# Altium footprint library electronpowered.PcbLib: 83 footprints (part 4 of 6)
Each footprint in its own frame and in the unit in brackets; x right, y up, seen from the top. Pads: shape width x height; smd on the part's side, far side on the other; paste and mask are expansions set on the pad; w line width, h text height; cw(c..) or ccw(c..) is an arc to the next point about the centre after c.
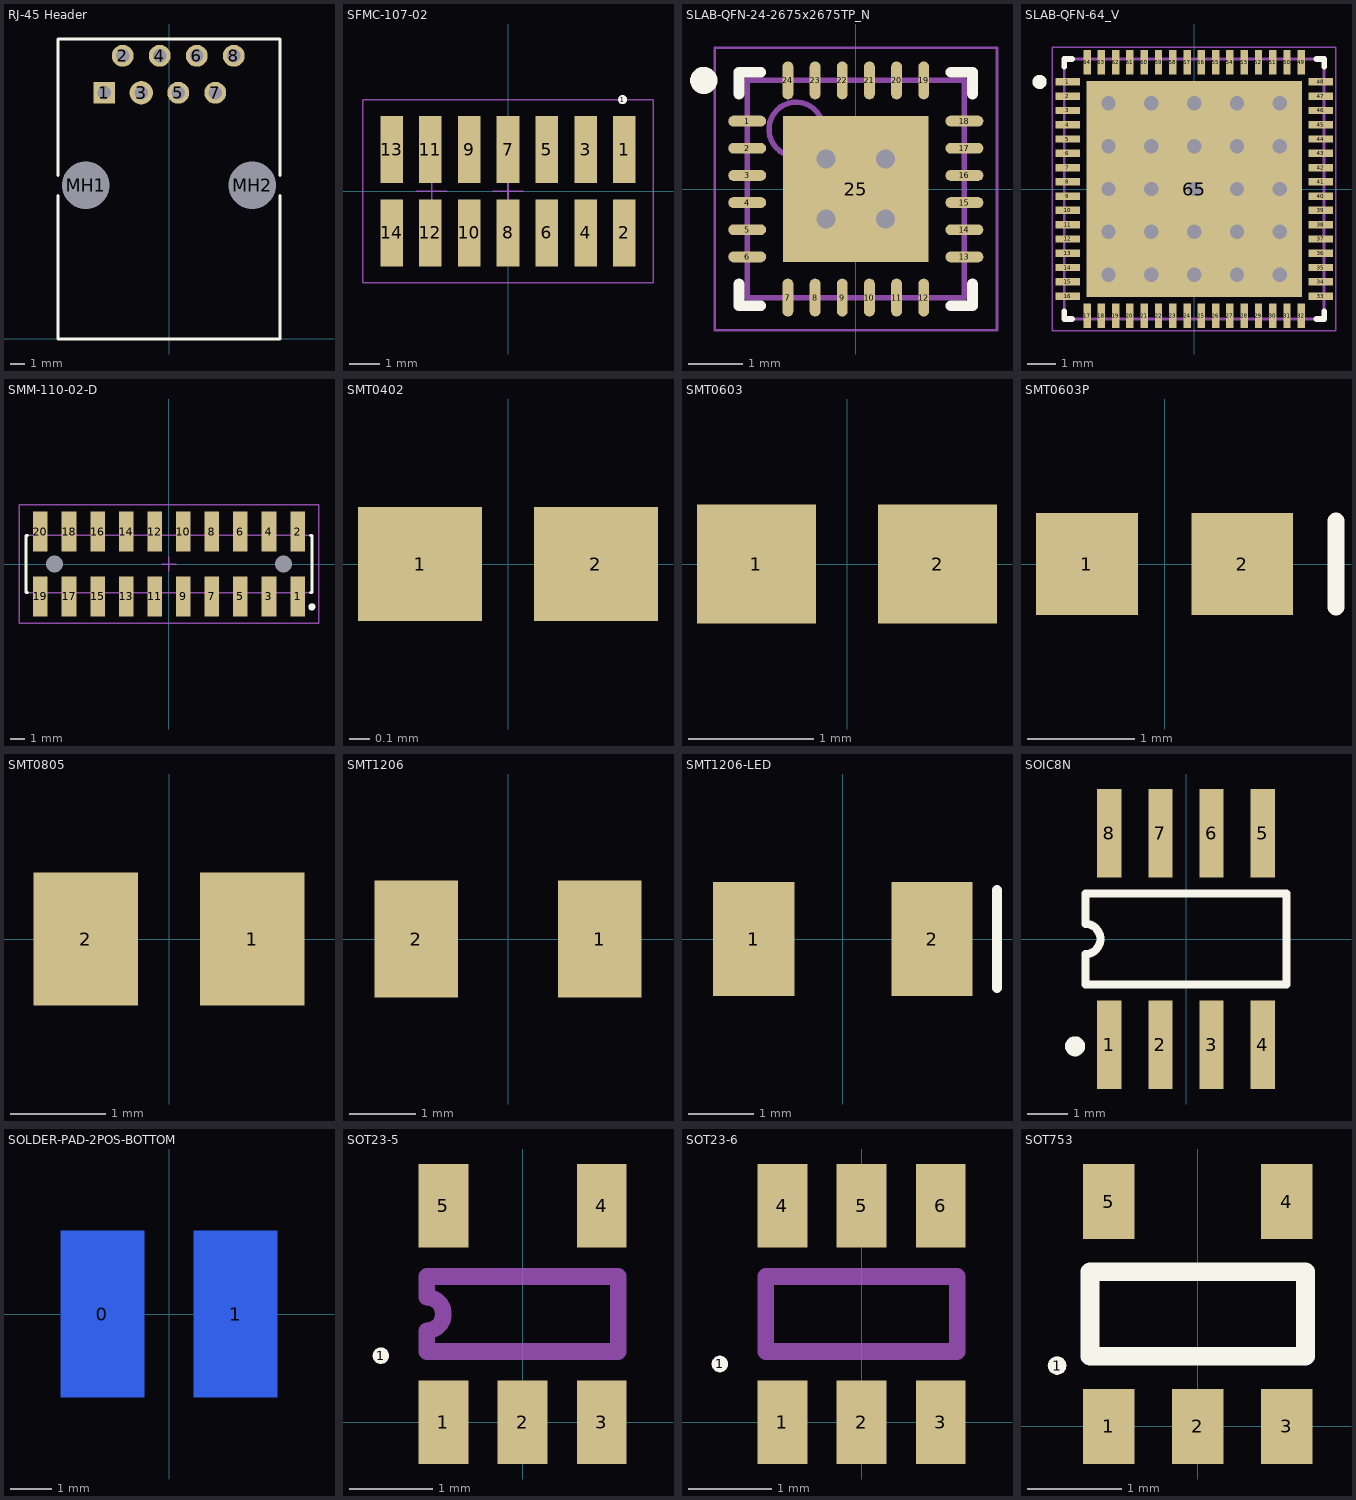
[diagram p3: the footprints below, top view; thin cyan lines are the x and y axes]

## RJ-45 Header [mm] "Connector; PCB Jack, Thru-Hole; 1-Port; Unshielded without Lightpipes; Right Angle"
height 18.92
pads (10):
  rect 1.5x1.5 hole 0.9: 1(-4.445,16.89)
  round 1.5 hole 0.9: 2(-3.175,19.43) 4(-0.635,19.43) 5(0.635,16.89) 6(1.905,19.43) 7(3.175,16.89) 8(4.445,19.43)
  round 1.6 hole 0.9: 3(-1.905,16.89)
  round 2.95 hole 3.25 unplated: MH1(-5.715,10.54) MH2(5.715,10.54)
Top Overlay:
  lines w0.2: -7.62,9.853 -7.62,0 7.62,0 7.62,9.853 ; -7.62,11.227 -7.62,20.58 7.62,20.58 7.62,11.227

## SFMC-107-02 [mm] "Samtec SFMC 14 pos 1.27mm female SMD socket"
height 4.57
pads (15):
  round 0.3 on Top Overlay: 1(3.75,3)
  rect 0.74x2.2 smd: 1(3.81,1.365) 2(3.81,-1.365) 3(2.54,1.365) 4(2.54,-1.365) 5(1.27,1.365) 6(1.27,-1.365) 7(0,1.365) 8(0,-1.365) 9(-1.27,1.365) 10(-1.27,-1.365) 11(-2.54,1.365) 12(-2.54,-1.365) 13(-3.81,1.365) 14(-3.81,-1.365)
Top Courtyard:
  lines w0.05: -3,0 -2,0 ; -2.5,-0.5 -2.5,0.5 ; -0.5,0 0.5,0 ; 0,-0.5 0,0.5 ; -4.75,-3 -4.75,3 4.75,3 4.75,-3 -4.75,-3

## SLAB-QFN-24-2675x2675TP_N [mm] "QFN, 24-Leads, Body 4x4mm, Pitch 0.5mm, Thermal Pad 2.68x2.68mm, IPC Medium Density"
height 0.8
pads (25):
  oval 0.7x0.2 smd: 1(-2,1.25) 2(-2,0.75) 3(-2,0.25) 4(-2,-0.25) 5(-2,-0.75) 6(-2,-1.25) 13(2,-1.25) 14(2,-0.75) 15(2,-0.25) 16(2,0.25) 17(2,0.75) 18(2,1.25)
  oval 0.2x0.7 smd: 7(-1.25,-2) 8(-0.75,-2) 9(-0.25,-2) 10(0.25,-2) 11(0.75,-2) 12(1.25,-2) 19(1.25,2) 20(0.75,2) 21(0.25,2) 22(-0.25,2) 23(-0.75,2) 24(-1.25,2)
  rect 2.68x2.68 smd: 25(0,0)
via 0.55,-0.55 diameter 0.8 hole 0.35
via -0.55,-0.55 diameter 0.8 hole 0.35
via 0.55,0.55 diameter 0.8 hole 0.35
via -0.55,0.55 diameter 0.8 hole 0.35
Top Overlay:
  circle w0.25: c-2.8,2 r0.125
  lines w0.2: -2.15,-1.75 -2.15,-2.15 -1.75,-2.15 ; -2.15,1.75 -2.15,2.15 -1.75,2.15 ; 1.75,-2.15 2.15,-2.15 2.15,-1.75 ; 1.75,2.15 2.15,2.15 2.15,1.75
Top Comp Body:
  circle w0.1: c-1.1,1.1 r0.5
  lines w0.1: -2,-2 2,-2 2,2 -2,2 -2,-2
Top Courtyard:
  lines w0.05: -2.6,-2.6 2.6,-2.6 2.6,2.6 -2.6,2.6 -2.6,-2.6
  lines w0.1: -0.5,0 0.5,0 ; 0,-0.5 0,0.5
3D body: height 0.8, standoff 0, extent -2,-2 2,2

## SLAB-QFN-64_V [mm] "QFN, 64-Leads, Body 9.1x9.1mm, Pitch 0.5mm, Thermal Pad 7.55x7.55mm"
height 0.9
pads (65):
  rect 0.86x0.26 smd mask+0.06: 1(-4.435,3.75) 2(-4.435,3.25) 3(-4.435,2.75) 4(-4.435,2.25) 5(-4.435,1.75) 6(-4.435,1.25) 7(-4.435,0.75) 8(-4.435,0.25) 9(-4.435,-0.25) 10(-4.435,-0.75) 11(-4.435,-1.25) 12(-4.435,-1.75) 13(-4.435,-2.25) 14(-4.435,-2.75) 15(-4.435,-3.25) 16(-4.435,-3.75) 33(4.435,-3.75) 34(4.435,-3.25) 35(4.435,-2.75) 36(4.435,-2.25) 37(4.435,-1.75) 38(4.435,-1.25) 39(4.435,-0.75) 40(4.435,-0.25) 41(4.435,0.25) 42(4.435,0.75) 43(4.435,1.25) 44(4.435,1.75) 45(4.435,2.25) 46(4.435,2.75) 47(4.435,3.25) 48(4.435,3.75)
  rect 0.26x0.86 smd mask+0.06: 17(-3.75,-4.435) 18(-3.25,-4.435) 19(-2.75,-4.435) 20(-2.25,-4.435) 21(-1.75,-4.435) 22(-1.25,-4.435) 23(-0.75,-4.435) 24(-0.25,-4.435) 25(0.25,-4.435) 26(0.75,-4.435) 27(1.25,-4.435) 28(1.75,-4.435) 29(2.25,-4.435) 30(2.75,-4.435) 31(3.25,-4.435) 32(3.75,-4.435) 49(3.75,4.435) 50(3.25,4.435) 51(2.75,4.435) 52(2.25,4.435) 53(1.75,4.435) 54(1.25,4.435) 55(0.75,4.435) 56(0.25,4.435) 57(-0.25,4.435) 58(-0.75,4.435) 59(-1.25,4.435) 60(-1.75,4.435) 61(-2.25,4.435) 62(-2.75,4.435) 63(-3.25,4.435) 64(-3.75,4.435)
  rect 7.55x7.55 smd paste-7.55 mask+0.06: 65(0,0)
via 3,0 diameter 1 hole 0.5
via 0,0 diameter 1 hole 0.5
via 1.5,0 diameter 1 hole 0.5
via -3,0 diameter 1 hole 0.5
via -1.5,0 diameter 1 hole 0.5
via -1.5,-1.5 diameter 1 hole 0.5
via -3,-1.5 diameter 1 hole 0.5
via 1.5,-1.5 diameter 1 hole 0.5
via 0,-1.5 diameter 1 hole 0.5
via 3,-1.5 diameter 1 hole 0.5
via -1.5,-3 diameter 1 hole 0.5
via -3,-3 diameter 1 hole 0.5
via 1.5,-3 diameter 1 hole 0.5
via 0,-3 diameter 1 hole 0.5
via 3,-3 diameter 1 hole 0.5
via -1.5,1.5 diameter 1 hole 0.5
via -3,1.5 diameter 1 hole 0.5
via 1.5,1.5 diameter 1 hole 0.5
via 0,1.5 diameter 1 hole 0.5
via 3,1.5 diameter 1 hole 0.5
via -1.5,3 diameter 1 hole 0.5
via -3,3 diameter 1 hole 0.5
via 1.5,3 diameter 1 hole 0.5
via 0,3 diameter 1 hole 0.5
via 3,3 diameter 1 hole 0.5
Top Overlay:
  circle w0.25: c-5.415,3.75 r0.125
  lines w0.2: -4.55,-4.28 -4.55,-4.55 -4.28,-4.55 ; -4.55,4.28 -4.55,4.55 -4.28,4.55 ; 4.28,-4.55 4.55,-4.55 4.55,-4.28 ; 4.28,4.55 4.55,4.55 4.55,4.28
Top Paste:
  region: 0.1,-0.1 0.1,-1.35 1.35,-1.35 1.35,-0.1
  region: 0.1,1.35 0.1,0.1 1.35,0.1 1.35,1.35
  region: -1.35,-0.1 -1.35,-1.35 -0.1,-1.35 -0.1,-0.1
  region: -1.35,1.35 -1.35,0.1 -0.1,0.1 -0.1,1.35
  region: 1.35,-2.8 1.35,-1.55 0.1,-1.55 0.1,-2.8
  region: -1.35,2.8 -1.35,1.55 -0.1,1.55 -0.1,2.8
  region: 0.1,2.8 0.1,1.55 1.35,1.55 1.35,2.8
  region: -0.1,-2.8 -0.1,-1.55 -1.35,-1.55 -1.35,-2.8
  region: 2.8,2.8 1.55,2.8 1.55,1.55 2.8,1.55
  region: 2.8,1.35 1.55,1.35 1.55,0.1 2.8,0.1
  region: 2.8,-0.1 1.55,-0.1 1.55,-1.35 2.8,-1.35
  region: 2.8,-1.55 1.55,-1.55 1.55,-2.8 2.8,-2.8
  rectangle: -2.8,-2.8 -1.55,-1.55
  rectangle: -2.8,-1.35 -1.55,-0.1
  rectangle: -2.8,0.1 -1.55,1.35
  rectangle: -2.8,1.55 -1.55,2.8
Top Comp Body:
  lines w0.1: -4.55,-4.55 -4.55,4.55 4.55,4.55 4.55,-4.55 -4.55,-4.55
Top Courtyard:
  lines w0.05: -4.965,-4.965 4.965,-4.965 4.965,4.965 -4.965,4.965 -4.965,-4.965
  lines w0.1: -0.5,0 0.5,0 ; 0,-0.5 0,0.5
3D body: height 0.9, standoff 0, extent -4.55,-4.55 4.55,4.55

## SMM-110-02-D [mm] "Connector, Socket Strip, Double Row, SMT, 20 Position, Vertical, Pitch 2mm, Body 20 x 4 mm (LxW)"
height 3.56
pads (22):
  rect 1.02x2.77 smd: 1(9,-2.275) 2(9,2.275) 3(7,-2.275) 4(7,2.275) 5(5,-2.275) 6(5,2.275) 7(3,-2.275) 8(3,2.275) 9(1,-2.275) 10(1,2.275) 11(-1,-2.275) 12(-1,2.275) 13(-3,-2.275) 14(-3,2.275) 15(-5,-2.275) 16(-5,2.275) 17(-7,-2.275) 18(-7,2.275) 19(-9,-2.275) 20(-9,2.275)
  round 0.89 hole 1.19: MH1(8,0) MH2(-8,0)
Top Overlay:
  circle w0.25: c10,-3 r0.125
  lines w0.2: -9.91,-2 -10,-2 -10,2 -9.91,2 ; 9.91,-2 10,-2 10,2 9.91,2
Top Comp Body:
  lines w0.1: -10,-2 -10,2 10,2 10,-2 -10,-2
Top Courtyard:
  lines w0.1: -0.5,0 0.5,0 ; 0,-0.5 0,0.5 ; -10.5,-4.16 -10.5,4.16 10.5,4.16 10.5,-4.16 -10.5,-4.16
3D body: height 3.56, standoff 0, extent -10,-2 10,2

## SMT0402 [mm] "0402 foorprint SMT"
height 0.25
pads (2):
  rect 0.6x0.55 smd: 1(-0.425,0) 2(0.425,0)
3D body: height 2.65, standoff 0, extent -0.587,-0.25 0.587,0.25

## SMT0603 [mm]
height 0.4
pads (2):
  rect 0.95x0.95 smd: 1(-0.725,0) 2(0.725,0)
3D body: height 2.65, standoff 0, extent -1.025,-0.45 1.025,0.45

## SMT0603P [mm] "Polarized 0603 footprint"
height 0.4
pads (2):
  rect 0.95x0.95 smd: 1(-0.725,0) 2(0.725,0)
Top Overlay:
  lines w0.16: 1.6,-0.4 1.6,0.4
3D body: height 2.65, standoff 0, extent -1.012,-0.437 1.013,0.438

## SMT0805 [mm]
height 0.6
pads (2):
  rect 1.1x1.4 smd: 1(0.875,0) 2(-0.875,0)
3D body: height 1.5, standoff 0, extent -1.212,-0.65 1.213,0.65

## SMT1206 [mm]
height 2.5
pads (2):
  rect 1.25x1.75 smd: 1(1.375,0) 2(-1.375,0)
3D body: height 2.65, standoff 0, extent -1.662,-0.8 1.663,0.8

## SMT1206-LED [mm]
height 2.5
pads (2):
  rect 1.25x1.75 smd: 1(-1.375,0) 2(1.375,0)
Top Overlay:
  lines w0.16: 2.375,-0.75 2.375,0.75
3D body "APTD3216.STEP": height 1.78, standoff -0.03, extent -1.6,-0.8 1.6,0.8

## SOIC8N [mm] "Small Outline; 8 Leads; Body Width 3.9 mm; Pitch 1.27 mm"
height 1.75
pads (8):
  rect 0.6x2.2 smd: 1(-1.905,-2.625) 2(-0.635,-2.625) 3(0.635,-2.625) 4(1.905,-2.625) 5(1.905,2.625) 6(0.635,2.625) 7(-0.635,2.625) 8(-1.905,2.625)
Top Overlay:
  circle w0.25: c-2.755,-2.665 r0.125
  lines w0.2: -2.5,-1.125 2.5,-1.125 2.5,1.125 -2.5,1.125 -2.5,0.375 cw(c-2.5,0) -2.5,-0.375 -2.5,-1.125
3D body: height 2.65, standoff 0, extent -2.54,-1.397 2.54,1.397

## SOLDER-PAD-2POS-BOTTOM [mm] "SOLDER-PAD-2POS-BOTTOM"
pads (2):
  rect 2x4 smd far side: 0(-1.6,0) 1(1.6,0)
Bottom Overlay:
  lines w0.254: -3.1,-2.5 3.1,-2.5 3.1,2.5 -3.1,2.5 -3.1,-2.5

## SOT23-5 [mm] "SOT143-4 as used in SP0503BAHTG"
pads (6):
  round 0.2 on Top Overlay: 1(-1.7,0.8)
  rect 0.6x1 smd: 1(-0.95,0) 2(0,0) 3(0.95,0) 4(0.95,2.6) 5(-0.95,2.6)
Top Comp Body:
  lines w0.2: -1.15,0.85 -1.15,1.1 ccw(c-1.15,1.3) -1.15,1.5 -1.15,1.75 1.15,1.75 1.15,0.85 -1.15,0.85
3D body "SOT235.step": height 1, standoff 0, extent -1.46,0.13 1.46,2.47

## SOT23-6 [mm] "SOT143-4 as used in SP0503BAHTG"
pads (7):
  round 0.2 on Top Overlay: 1(-1.7,0.7)
  rect 0.6x1 smd: 1(-0.95,0) 2(0,0) 3(0.95,0) 4(-0.95,2.6) 5(0,2.6) 6(0.95,2.6)
Top Comp Body:
  lines w0.2: -1.15,0.85 -1.15,1.75 1.15,1.75 1.15,0.85 -1.15,0.85
3D body "SOT236.step": height 1, standoff 0, extent -1.46,0.13 1.46,2.47

## SOT753 [mm] "SOT753"
pads (6):
  round 0.2 on Top Overlay: 1(-1.5,0.65)
  rect 0.55x0.8 smd: 1(-0.95,0) 2(0,0) 3(0.95,0) 4(0.95,2.4) 5(-0.95,2.4)
Top Overlay:
  lines w0.2: -1.15,0.75 -1.15,1.65 1.15,1.65 1.15,0.75 -1.15,0.75